# EAGLE library part NPN-PNPSOR23-6 (library zetex)
Dual NPN PNP TRANSISTOR
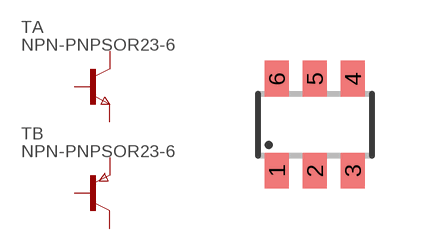
[diagram p15: symbol with the pads of SOT23-6; footprint SOT23-6]

Designator prefix T; gates A=NPN B=PNP

## NPN-PNPSOR23-6 (OC_FARNELL: unknown; OC_NEWARK: unknown)  [SOT23-6]
1  A:C  pas
2  A:B  pas
3  B:C  pas
4  B:E  pas
5  B:B  pas
6  A:E  pas

## Footprint SOT23-6 (pad centres in mm)
Small Outline Transistor 6 lead
smd 0.6 x 0.9: 1 -0.95,-1.15; 2 0,-1.15; 3 0.95,-1.15; 4 0.95,1.15; 5 0,1.15; 6 -0.95,1.15